# Altium footprint library Diode_THT.PcbLib: 111 footprints (part 7 of 7)
Each footprint in its own frame and in the unit in brackets; x right, y up, seen from the top. Pads: shape width x height; smd on the part's side, far side on the other; paste and mask are expansions set on the pad; w line width, h text height; cw(c..) or ccw(c..) is an arc to the next point about the centre after c.
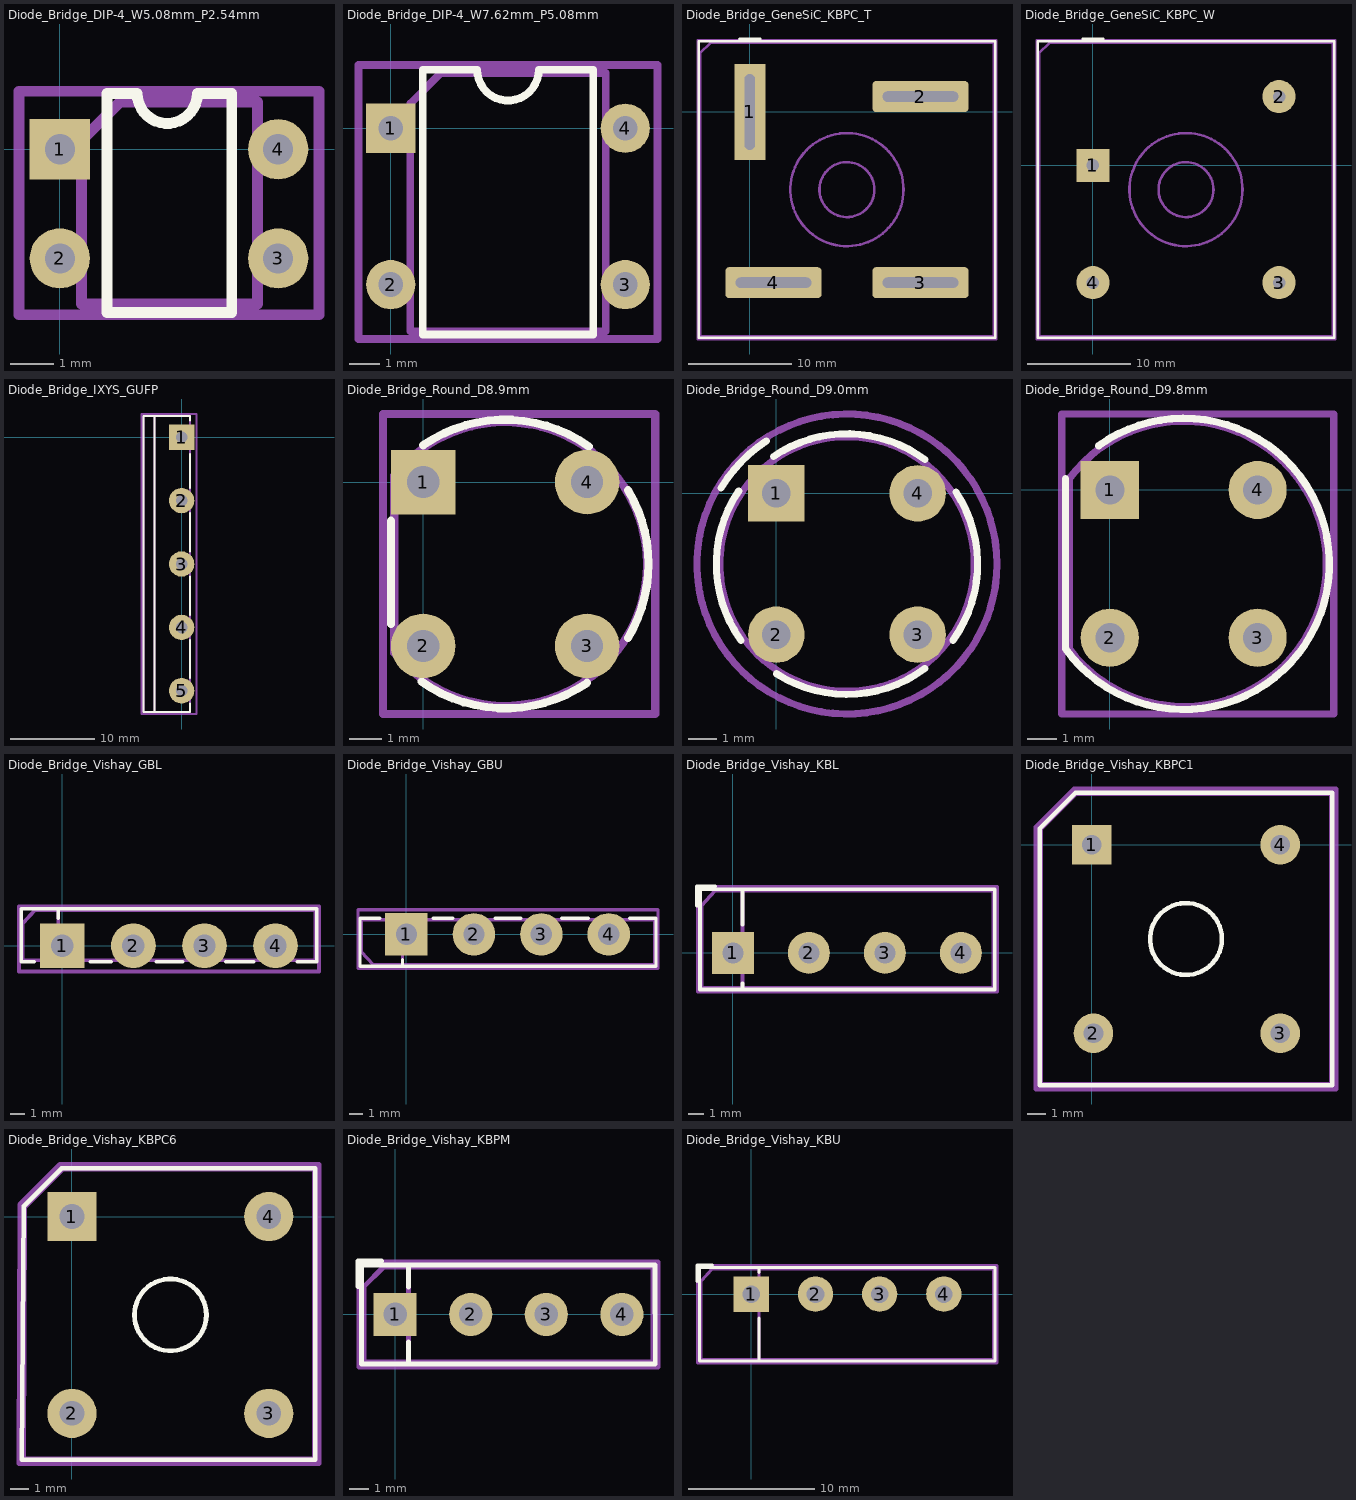
[diagram p6: the footprints below, top view; thin cyan lines are the x and y axes]

## Diode_Bridge_DIP-4_W5.08mm_P2.54mm [mm] "Diode_Bridge_DIP-4_W5.08mm_P2.54mm"
pads (4):
  rect 1.4x1.4 hole 0.7: 1(0,0)
  round 1.4 hole 0.7: 2(0,-2.54) 3(5.08,-2.54) 4(5.08,0)
F.SilkS:
  lines w0.254: 1.1,-3.8 4,-3.8 4,1.3 3.2,1.3 cw(c2.5,1.3) 1.8,1.3 1.1,1.3 1.1,-3.8
Top Component Center:
  lines w0.127: -0.127,0 0.127,0 ; 0,-0.127 0,0.127
Top Assembly:
  lines w0.254: 0.5,-3.6 4.6,-3.6 4.6,1.1 1.4,1.1 0.5,0.2 0.5,-3.6
Top Courtyard:
  lines w0.254: -0.95,-3.85 6.03,-3.85 6.03,1.35 -0.95,1.35 -0.95,-3.85
Top Designator:
  text ".Designator" at -0.894,-1.869 h1.52
3D body "Diode_Bridge_DIP-4_W5.08mm_P2.54mm.step": height 2.9, standoff -3, extent -0.2,-3.685 5.28,1.145

## Diode_Bridge_DIP-4_W7.62mm_P5.08mm [mm] "Diode_Bridge_DIP-4_W7.62mm_P5.08mm"
pads (4):
  rect 1.6x1.6 hole 0.8: 1(0,0)
  rrect100% 1.6x1.6 hole 0.8: 2(0,-5.08) 3(7.62,-5.08) 4(7.62,0)
F.SilkS:
  lines w0.254: 1.04,-6.7 6.58,-6.7 6.58,1.9 4.81,1.9 cw(c3.81,1.9) 2.81,1.9 1.04,1.9 1.04,-6.7
Top Component Center:
  lines w0.127: -0.127,0 0.127,0 ; 0,-0.127 0,0.127
Top Assembly:
  lines w0.254: 0.635,-6.6 6.985,-6.6 6.985,1.8 1.635,1.8 0.635,0.8 0.635,-6.6
Top Courtyard:
  lines w0.254: -1.05,-6.85 8.67,-6.85 8.67,2.05 -1.05,2.05 -1.05,-6.85
Top Designator:
  text ".Designator" at 0.376,-2.745 h1.52
3D body "Diode_Bridge_DIP-4_W7.62mm_P5.08mm.step": height 3.5, standoff -3, extent -0.2,-6.79 7.82,1.71

## Diode_Bridge_GeneSiC_KBPC_T [mm] "Diode_Bridge_GeneSiC_KBPC_T"
pads (4):
  rect 3.01x9.36 hole 1.01 slot 7.36 at 90 deg: 1(0,0)
  rrect25% 9.36x3.01 hole 1.01 slot 7.36 at 0 deg: 2(16.6,1.5) 3(16.6,-16.6) 4(2.3,-16.6)
F.SilkS:
  lines w0.254: -1,7.1 1,7.1 ; -4.975,-21.975 23.875,-21.975 23.875,6.875 -4.975,6.875 -4.975,-21.975
Top Component Center:
  lines w0.127: -0.127,0 0.127,0 ; 0,-0.127 0,0.127
Top Assembly:
  circle w0.254: c9.45,-7.55 r2.672
  lines w0.254: -4.825,-21.825 23.725,-21.825 23.725,6.725 -3.825,6.725 -4.825,5.725 -4.825,-21.825
  text "~" at 16.166,-0.746 h1
  text "-" at 15.997,-14.45 h1
  text "~" at 2.216,-14.521 h1
  text "+" at 1.922,-0.528 h1
Top Courtyard:
  lines w0.254: -5.08,-22.08 23.98,-22.08 23.99,6.98 -5.08,6.98 -5.08,-22.08
Top Designator:
  text ".Designator" at 6.021,-7.835 h1.52
Cmts.User:
  circle w0.254: c9.45,-7.55 r5.5
  text "(Screw and Washer)" at 5.963,-5.431 h0.5
  text "Mounting Drill Hole" at 4.433,-6.827 h0.8
3D body "Diode_Bridge_GeneSiC_KBPC_T.step": height 11.1, standoff -13, extent -4.825,-21.825 23.725,6.725

## Diode_Bridge_GeneSiC_KBPC_W [mm] "Diode_Bridge_GeneSiC_KBPC_W"
pads (4):
  rect 3.22x3.22 hole 1.22: 1(0,0)
  round 3.22 hole 1.22: 2(18.1,6.7) 3(18.1,-11.4) 4(0,-11.4)
F.SilkS:
  lines w0.254: -1,12.3 1,12.3 ; -5.375,-16.775 23.475,-16.775 23.475,12.075 -5.375,12.075 -5.375,-16.775
Top Component Center:
  lines w0.127: -0.127,0 0.127,0 ; 0,-0.127 0,0.127
Top Assembly:
  circle w0.254: c9.05,-2.35 r2.672
  lines w0.254: -5.225,-16.625 23.325,-16.625 23.325,11.925 -4.225,11.925 -5.225,10.925 -5.225,-16.625
  text "+" at 1.722,-0.553 h1
  text "-" at 15.447,-9.925 h1
  text "~" at 1.666,-9.996 h1
  text "~" at 15.616,3.779 h1
Top Courtyard:
  lines w0.254: -5.48,-16.88 23.58,-16.88 23.58,12.18 -5.48,12.18 -5.48,-16.88
Top Designator:
  text ".Designator" at 5.616,-2.635 h1.52
Cmts.User:
  circle w0.254: c9.05,-2.35 r5.5
  text "(Screw and Washer)" at 5.563,-0.231 h0.5
  text "Mounting Drill Hole" at 4.033,-1.627 h0.8
3D body "Diode_Bridge_GeneSiC_KBPC_W.step": height 11.1, standoff -19.4, extent -5.225,-16.625 23.325,11.925

## Diode_Bridge_IXYS_GUFP [mm] "Diode_Bridge_IXYS_GUFP"
pads (5):
  rect 3x3 hole 1.39: 1(0,0)
  round 3 hole 1.39: 2(0,-7.5) 3(0,-15) 4(0,-22.5) 5(0,-30)
F.SilkS:
  lines w0.254: -3.2,-32.5 -3.2,2.5 ; 1,-31.5 1,-32.5 -4.5,-32.5 -4.5,2.5 1,2.5 1,2 ; 1,-28.5 1,-24 ; 1,-21 1,-16.5 ; 1,-13.5 1,-9 ; 1,-6 1,-2
Top Component Center:
  lines w0.127: -0.127,0 0.127,0 ; 0,-0.127 0,0.127
Top Assembly:
  lines w0.254: -3.2,-32.5 -3.2,2.5 ; 1,-0.25 1,-32.5 -4.5,-32.5 -4.5,2.5 1,2.5 1,0.25 ; 0.75,0 1.25,-0.5 1.25,0.5 0.75,0
Top Courtyard:
  lines w0.254: -4.75,-32.75 1.75,-32.75 1.75,2.75 -4.75,2.75 -4.75,-32.75
Top Designator:
  text ".Designator" at -2.758,1.656 h1.52
3D body "Diode_Bridge_IXYS_GUFP.step": height 28.75, standoff -16.65, extent -4.25,-32.44 1.25,2.56

## Diode_Bridge_Round_D8.9mm [mm] "Diode_Bridge_Round_D8.9mm"
pads (4):
  rect 2x2 hole 1: 1(0,0)
  rrect100% 2x2 hole 1: 2(0,-5.08) 3(5.08,-5.08) 4(5.08,0)
F.SilkS:
  lines w0.254: -1,-4.4 -1,-1.2 ; -0.052,-6.186 ccw(c2.54,-2.54) 5.08,-6.223 ; 0,1.143 cw(c2.54,-2.54) 5.132,1.106 ; 6.347,-4.831 ccw(c2.54,-2.54) 6.35,-0.254
Top Component Center:
  lines w0.127: -0.127,0 0.127,0 ; 0,-0.127 0,0.127
Top Assembly:
  lines w0.254: -0.904,-5.275 ccw(c2.54,-2.54) -0.9,0.2 -0.9,-5.3
Top Courtyard:
  lines w0.254: -1.25,-7.19 7.19,-7.19 7.19,2.11 -1.25,2.11 -1.25,-7.19
Top Designator:
  text ".Designator" at -0.269,-2.885 h1.52
3D body "Diode_Bridge_Round_D8.9mm.step": height 5.3, standoff -5, extent -0.9,-6.99 6.984,1.91

## Diode_Bridge_Round_D9.0mm [mm] "Diode_Bridge_Round_D9.0mm"
pads (4):
  rect 2x2 hole 1: 1(0,0)
  rrect100% 2x2 hole 1: 2(0,-5) 3(5,-5) 4(5,0)
F.SilkS:
  lines w0.254: -1.954,0.184 cw(c2.5,-2.5) -0.35,1.85 ; -1.329,0.086 ccw(c2.5,-2.5) -1.25,-5.2 ; -0.1,1.3 cw(c2.5,-2.5) 5.255,1.189 ; 0.009,-6.379 ccw(c2.5,-2.5) 5.25,-6.2 ; 6.248,-5.198 ccw(c2.5,-2.5) 6.35,0.05
Top Component Center:
  lines w0.127: -0.127,0 0.127,0 ; 0,-0.127 0,0.127
Top Assembly:
  circle w0.254: c2.5,-2.5 r4.5
Top Courtyard:
  circle w0.254: c2.5,-2.5 r5.304
Top Designator:
  text ".Designator" at -0.934,-2.845 h1.52
3D body "Diode_Bridge_Round_D9.0mm.step": height 5.1, standoff -5, extent -1.988,-6.997 7,1.997

## Diode_Bridge_Round_D9.8mm [mm] "Diode_Bridge_Round_D9.8mm"
pads (4):
  rect 2x2 hole 1: 1(0,0)
  rrect100% 2x2 hole 1: 2(0,-5.08) 3(5.08,-5.08) 4(5.08,0)
F.SilkS:
  lines w0.254: -1.524,0.381 -1.524,-5.461 ccw(c2.54,-2.54) -0.381,1.524
Top Component Center:
  lines w0.127: -0.127,0 0.127,0 ; 0,-0.127 0,0.127
Top Assembly:
  lines w0.254: -1.404,-5.454 ccw(c2.54,-2.54) -1.4,0.38 ; -1.397,-5.461 -1.397,0.381
Top Courtyard:
  lines w0.254: -1.65,-7.7 7.7,-7.7 7.7,2.61 -1.65,2.61 -1.65,-7.7
Top Designator:
  text ".Designator" at -0.409,-2.89 h1.52
3D body "Diode_Bridge_Round_D9.8mm.step": height 5.6, standoff -5, extent -1.4,-7.436 7.44,2.356

## Diode_Bridge_Vishay_GBL [mm] "Diode_Bridge_Vishay_GBL"
pads (4):
  rect 3.2x3.2 hole 1.6: 1(0,0)
  round 3.2 hole 1.6: 2(5.08,0) 3(10.16,0) 4(15.24,0)
F.SilkS:
  lines w0.254: -2,-1.15 -2.95,-1.15 -2.95,2.65 18.2,2.65 18.2,-1.15 16.8,-1.15 ; -0.3,1.95 -0.3,2.65 ; 2,-1.15 3.5,-1.15 ; 6.7,-1.15 8.6,-1.15 ; 11.7,-1.15 13.7,-1.15
Top Component Center:
  lines w0.127: -0.127,0 0.127,0 ; 0,-0.127 0,0.127
Top Assembly:
  lines w0.254: -0.3,-1.05 -0.3,2.55 ; -2.85,-1.05 18.1,-1.05 18.1,2.55 -1.95,2.55 -2.85,1.55 -2.85,-1.05
Top Courtyard:
  lines w0.254: -3.1,-1.85 18.35,-1.85 18.35,2.8 -3.1,2.8 -3.1,-1.85
Top Designator:
  text ".Designator" at 4.186,1.687 h1.52
3D body "Diode_Bridge_Vishay_GBL.step": height 12.6, standoff -17, extent -2.83,-1.02 18.07,2.54

## Diode_Bridge_Vishay_GBU [mm] "Diode_Bridge_Vishay_GBU"
pads (4):
  rect 3.2x3.2 hole 1.6: 1(0,0)
  round 3.2 hole 1.6: 2(5.08,0) 3(10.16,0) 4(15.24,0)
F.SilkS:
  lines w0.254: -2,1.2 -3.5,1.2 -3.5,-2.4 18.8,-2.4 18.8,1.2 16.8,1.2 ; -0.3,-2.4 -0.3,-1.9 ; 2,1.2 3.5,1.2 ; 6.7,1.2 8.6,1.2 ; 11.7,1.2 13.7,1.2
Top Component Center:
  lines w0.127: -0.127,0 0.127,0 ; 0,-0.127 0,0.127
Top Assembly:
  lines w0.254: -0.3,-2.3 -0.3,1.1 ; -3.4,-1.3 -2.5,-2.3 18.7,-2.3 18.7,1.1 -3.4,1.1 -3.4,-1.3
Top Courtyard:
  lines w0.254: -3.65,-2.55 18.95,-2.55 18.95,1.85 -3.65,1.85 -3.65,-2.55
Top Designator:
  text ".Designator" at 4.821,-2.25 h1.52
3D body "Diode_Bridge_Vishay_GBU.step": height 20.4, standoff -16, extent -3.43,-2.3 18.67,1.1

## Diode_Bridge_Vishay_KBL [mm] "Diode_Bridge_Vishay_KBL"
pads (4):
  rect 2.8x2.8 hole 1.4: 1(0,0)
  round 2.8 hole 1.4: 2(5.08,0) 3(10.16,0) 4(15.24,0)
F.SilkS:
  lines w0.254: -2.4,3.15 -2.4,4.45 -1.2,4.45 ; 0.65,-2.45 0.65,-2.05 ; 0.65,1.9 0.65,4.25 ; -2.2,-2.45 17.5,-2.45 17.5,4.25 -2.2,4.25 -2.2,-2.45
Top Component Center:
  lines w0.127: -0.127,0 0.127,0 ; 0,-0.127 0,0.127
Top Assembly:
  lines w0.254: 0.65,-2.35 0.65,4.15 ; -2.1,-2.35 17.4,-2.35 17.4,4.15 -1.2,4.15 -2.1,3.15 -2.1,-2.35
Top Courtyard:
  lines w0.254: -2.35,-2.6 17.65,-2.6 17.65,4.4 -2.35,4.4 -2.35,-2.6
Top Designator:
  text ".Designator" at 4.44,2.195 h1.52
3D body "Diode_Bridge_Vishay_KBL.step": height 15.05, standoff -14, extent -2.13,-2.3 17.37,4.2

## Diode_Bridge_Vishay_KBPC1 [mm] "Diode_Bridge_Vishay_KBPC1"
pads (4):
  rect 2.2x2.2 hole 1.1: 1(0,0)
  round 2.2 hole 1.1: 2(0.1,-10.5) 3(10.5,-10.5) 4(10.5,0)
F.SilkS:
  circle w0.254: c5.25,-5.25 r2
  lines w0.254: -2.9,-13.4 13.4,-13.4 13.4,2.9 -0.9,2.9 -2.9,0.9 -2.9,-13.4
Top Component Center:
  lines w0.127: -0.127,0 0.127,0 ; 0,-0.127 0,0.127
Top Assembly:
  lines w0.254: -2.85,-13.35 13.35,-13.35 13.35,2.85 -0.85,2.85 -2.85,0.85 -2.85,-13.35
Top Courtyard:
  lines w0.254: -3.1,-13.6 13.6,-13.6 13.6,3.1 -1,3.1 -3.1,1 -3.1,-13.6
Top Designator:
  text ".Designator" at 1.816,-5.595 h1.52
3D body "Diode_Bridge_Vishay_KBPC1.step": height 6.4, standoff -9, extent -2.85,-13.35 13.35,2.85

## Diode_Bridge_Vishay_KBPC6 [mm] "Diode_Bridge_Vishay_KBPC6"
pads (4):
  rect 2.6x2.6 hole 1.3: 1(0,0)
  round 2.6 hole 1.3: 2(0,-10.4) 3(10.4,-10.4) 4(10.4,0)
F.SilkS:
  circle w0.254: c5.2,-5.2 r1.9
  lines w0.254: -2.65,-12.85 -2.55,0.55 -0.55,2.55 12.85,2.55 12.85,-12.85 -2.65,-12.85
Top Component Center:
  lines w0.127: -0.127,0 0.127,0 ; 0,-0.127 0,0.127
Top Assembly:
  lines w0.254: -2.55,-12.8 12.8,-12.8 12.8,2.5 -0.5,2.5 -2.5,0.5 -2.55,-12.8
Top Courtyard:
  lines w0.254: -2.8,-13.05 13.05,-13.05 13.05,2.75 -0.65,2.75 -2.75,0.65 -2.8,-13.05
Top Designator:
  text ".Designator" at 1.9,-5.552 h1.52
3D body "Diode_Bridge_Vishay_KBPC6.step": height 6.4, standoff -9, extent -2.425,-12.825 12.825,2.425

## Diode_Bridge_Vishay_KBPM [mm] "Diode_Bridge_Vishay_KBPM"
pads (4):
  rect 2.2x2.2 hole 1.2: 1(0,0)
  round 2.2 hole 1.2: 2(3.85,0) 3(7.7,0) 4(11.55,0)
F.SilkS:
  lines w0.254: -1.89,1.41 -1.89,2.71 -0.69,2.71 ; 0.67,-2.525 0.67,-1.4 ; 0.67,1.4 0.67,2.52 ; -1.7,-2.525 13.25,-2.525 13.24,2.52 -1.7,2.52 -1.7,-2.525
Top Component Center:
  lines w0.127: -0.127,0 0.127,0 ; 0,-0.127 0,0.127
Top Assembly:
  lines w0.254: 0.67,-2.415 0.67,2.41 ; -1.59,-2.415 13.14,-2.415 13.14,2.41 -0.59,2.41 -1.59,1.41 -1.59,-2.415
Top Courtyard:
  lines w0.254: -1.84,-2.67 13.39,-2.67 13.39,2.66 -1.84,2.66 -1.84,-2.67
Top Designator:
  text ".Designator" at 2.408,1.306 h1.52
3D body "Diode_Bridge_Vishay_KBPM.step": height 12.18, standoff -14.19, extent -1.59,-2.42 13.14,2.41

## Diode_Bridge_Vishay_KBU [mm] "Diode_Bridge_Vishay_KBU"
pads (4):
  rect 2.8x2.8 hole 1.4: 1(0,0)
  round 2.8 hole 1.4: 2(5.08,0) 3(10.16,0) 4(15.24,0)
F.SilkS:
  lines w0.254: -4.3,1 -4.3,2.3 -3.1,2.3 ; 0.6,-5.3 0.6,-1.9 ; 0.6,1.7 0.6,2.1 ; -4.1,-5.3 19.3,-5.3 19.3,2.1 -4.1,2.1 -4.1,-5.3
Top Component Center:
  lines w0.127: -0.127,0 0.127,0 ; 0,-0.127 0,0.127
Top Assembly:
  lines w0.254: 0.6,-5.2 0.6,2 ; -4,-5.2 19.2,-5.2 19.2,2 -3.1,2 -4,1 -4,-5.2
Top Courtyard:
  lines w0.254: -4.25,-5.45 19.45,-5.45 19.45,2.25 -4.25,2.25 -4.25,-5.45
Top Designator:
  text ".Designator" at 4.821,-2.758 h1.52
3D body "Diode_Bridge_Vishay_KBU.step": height 19.35, standoff -14, extent -3.98,-5.2 19.22,1.9